# Altium schematic symbol library kmilo17pet-LT_OpAmp_LT1000.SchLib: 2280 symbols (part 46 of 79)
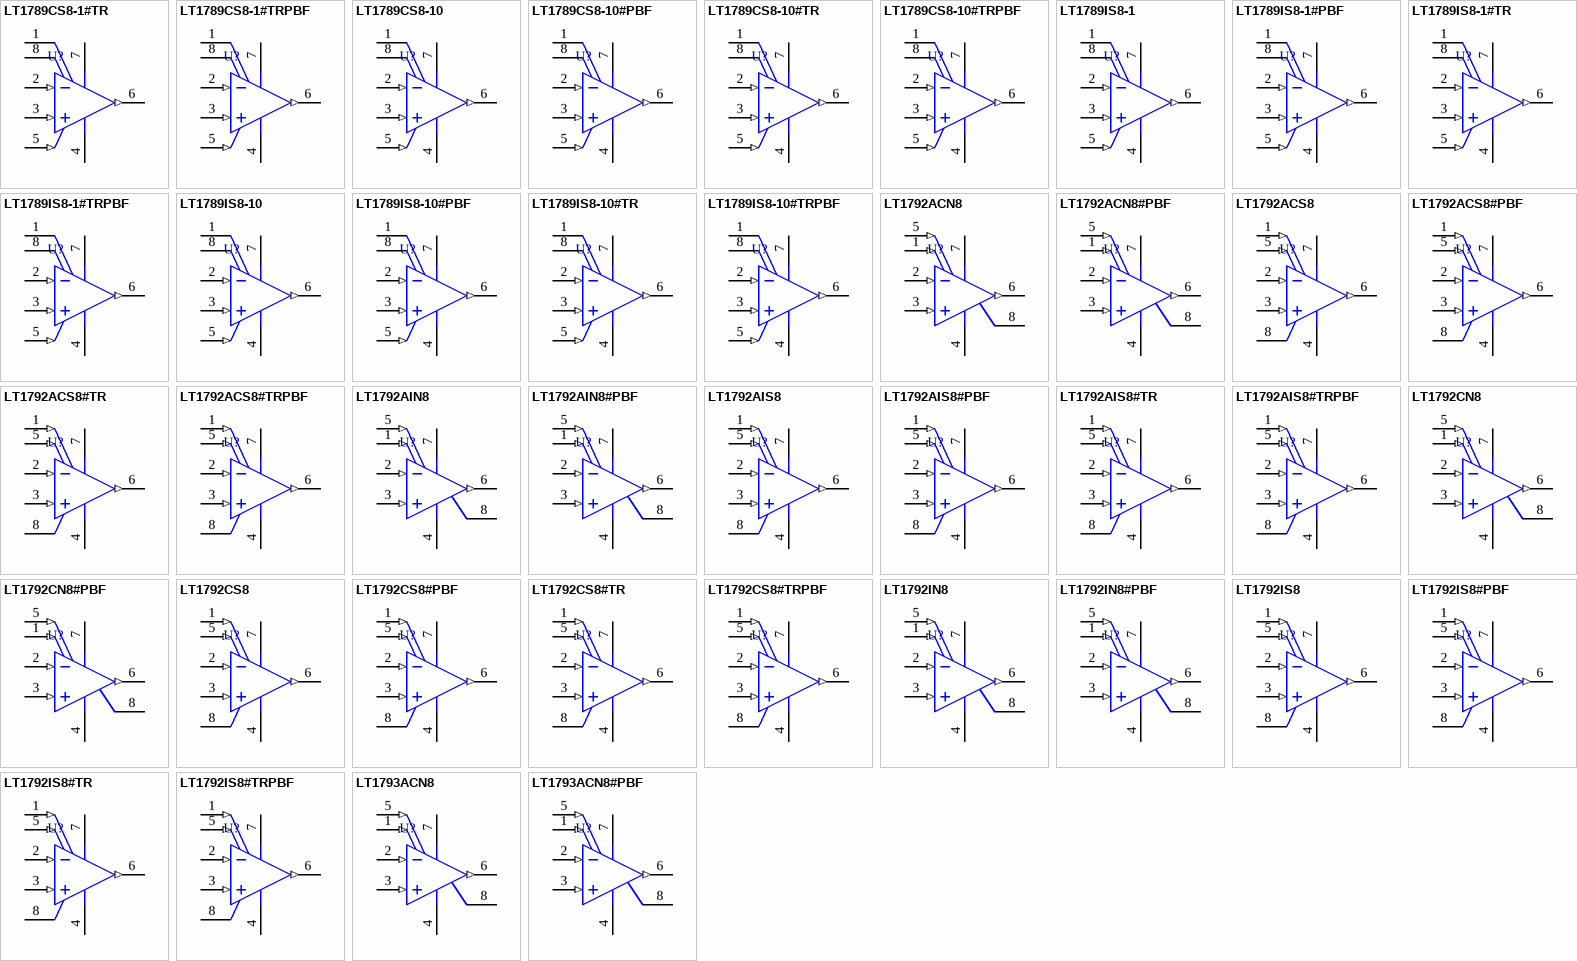
[diagram p150: symbols LT1789CS8-1#TR to LT1793ACN8#PBF]

## LT1789IS8-10
designator U?
Single Channel, Micropower, Single Supply Rail-to-Rail Output Instrumentation Amplifiers, 0.06 MHz Typical GBW, 0.026 V/us Typical SR, 2.2 to 36 V, 8-Pin SOIC (S8-8), Industrial; Linear Technology Part Number: LT1789-10; Manufacturer: Linear Technology; PartNumber: LT1789IS8-10; Channels (#): 1; GBW (MHz) Typical: 0.06; Is (mA) Typical: 0.067; SR (V/us) Typical: 0.026; Vos (mV) Guaranteed: 3; Vos (mV) Typical: 0.65; Vs Max (V): 36; Vs Min (V): 2.2; DatasheetVersion: Rev. C; PackageVersion: Rev G; PackageReference: LT-S8-8; PackageDescription: 8-Pin Plastic Small Outline, Body 4.9 x 3.9 mm, Pitch 1.27 mm; Supplier 1: Digi-Key; Supplier Part Number 1: LT1789IS8-10-ND; Type: IA; Mounting Technology: Surface Mount; ComponentLink1Description: Manufacturer URL; ComponentLink1URL: http://www.linear.com/; ComponentLink2Description: Datasheet; ComponentLink2URL: http://cds.linear.com/docs/en/datasheet/1789fc.pdf; ComponentLink3Description: Package Specification; ComponentLink3URL: http://cds.linear.com/docs/en/packaging/05081610_G_SO8.pdf
footprint LT-S8-8_N (SOIC, 8-Leads, Body 4.9x3.9mm, Pitch 1.27mm, IPC Medium Density)
footprint LT-S8-8_L (SOIC, 8-Leads, Body 4.9x3.9mm, Pitch 1.27mm, IPC High Density)
footprint LT-S8-8_M (SOIC, 8-Leads, Body 4.9x3.9mm, Pitch 1.27mm, IPC Low Density)
pins: 1 RG, 2 -IN (in), 3 +IN (in), 4 -VS (power), 5 REF (in), 6 OUT (out), 7 +VS (power), 8 RG

## LT1789IS8-10#PBF
designator U?
Single Channel, Micropower, Single Supply Rail-to-Rail Output Instrumentation Amplifiers, 0.06 MHz Typical GBW, 0.026 V/us Typical SR, 2.2 to 36 V, 8-Pin SOIC (S8-8), Industrial, Pb-Free; Linear Technology Part Number: LT1789-10; Manufacturer: Linear Technology; PartNumber: LT1789IS8-10#PBF; Channels (#): 1; GBW (MHz) Typical: 0.06; Is (mA) Typical: 0.067; SR (V/us) Typical: 0.026; Vos (mV) Guaranteed: 3; Vos (mV) Typical: 0.65; Vs Max (V): 36; Vs Min (V): 2.2; DatasheetVersion: Rev. C; PackageVersion: Rev G; PackageReference: LT-S8-8; PackageDescription: 8-Pin Plastic Small Outline, Body 4.9 x 3.9 mm, Pitch 1.27 mm; Supplier 1: Digi-Key; Supplier Part Number 1: LT1789IS8-10#PBF-ND; Supplier 2: Newark; Supplier Part Number 2: 57M6483; RoHS: Pb-Free; Type: IA; Mounting Technology: Surface Mount; ComponentLink1Description: Manufacturer URL; ComponentLink1URL: http://www.linear.com/; ComponentLink2Description: Datasheet; ComponentLink2URL: http://cds.linear.com/docs/en/datasheet/1789fc.pdf; ComponentLink3Description: Package Specification; ComponentLink3URL: http://cds.linear.com/docs/en/packaging/05081610_G_SO8.pdf
footprint LT-S8-8_N (SOIC, 8-Leads, Body 4.9x3.9mm, Pitch 1.27mm, IPC Medium Density)
footprint LT-S8-8_L (SOIC, 8-Leads, Body 4.9x3.9mm, Pitch 1.27mm, IPC High Density)
footprint LT-S8-8_M (SOIC, 8-Leads, Body 4.9x3.9mm, Pitch 1.27mm, IPC Low Density)
pins: 1 RG, 2 -IN (in), 3 +IN (in), 4 -VS (power), 5 REF (in), 6 OUT (out), 7 +VS (power), 8 RG

## LT1789IS8-10#TR
designator U?
Single Channel, Micropower, Single Supply Rail-to-Rail Output Instrumentation Amplifiers, 0.06 MHz Typical GBW, 0.026 V/us Typical SR, 2.2 to 36 V, 8-Pin SOIC (S8-8), Industrial, Reel; Linear Technology Part Number: LT1789-10; Manufacturer: Linear Technology; PartNumber: LT1789IS8-10#TR; Channels (#): 1; GBW (MHz) Typical: 0.06; Is (mA) Typical: 0.067; SR (V/us) Typical: 0.026; Vos (mV) Guaranteed: 3; Vos (mV) Typical: 0.65; Vs Max (V): 36; Vs Min (V): 2.2; DatasheetVersion: Rev. C; PackageVersion: Rev G; PackageReference: LT-S8-8; PackageDescription: 8-Pin Plastic Small Outline, Body 4.9 x 3.9 mm, Pitch 1.27 mm; Supplier 1: Digi-Key; Supplier Part Number 1: LT1789IS8-10#TR-ND; Packing: Reel; Type: IA; Mounting Technology: Surface Mount; ComponentLink1Description: Manufacturer URL; ComponentLink1URL: http://www.linear.com/; ComponentLink2Description: Datasheet; ComponentLink2URL: http://cds.linear.com/docs/en/datasheet/1789fc.pdf; ComponentLink3Description: Package Specification; ComponentLink3URL: http://cds.linear.com/docs/en/packaging/05081610_G_SO8.pdf
footprint LT-S8-8_N (SOIC, 8-Leads, Body 4.9x3.9mm, Pitch 1.27mm, IPC Medium Density)
footprint LT-S8-8_L (SOIC, 8-Leads, Body 4.9x3.9mm, Pitch 1.27mm, IPC High Density)
footprint LT-S8-8_M (SOIC, 8-Leads, Body 4.9x3.9mm, Pitch 1.27mm, IPC Low Density)
pins: 1 RG, 2 -IN (in), 3 +IN (in), 4 -VS (power), 5 REF (in), 6 OUT (out), 7 +VS (power), 8 RG

## LT1789IS8-10#TRPBF
designator U?
Single Channel, Micropower, Single Supply Rail-to-Rail Output Instrumentation Amplifiers, 0.06 MHz Typical GBW, 0.026 V/us Typical SR, 2.2 to 36 V, 8-Pin SOIC (S8-8), Industrial, Pb-Free, Reel; Linear Technology Part Number: LT1789-10; Manufacturer: Linear Technology; PartNumber: LT1789IS8-10#TRPBF; Channels (#): 1; GBW (MHz) Typical: 0.06; Is (mA) Typical: 0.067; SR (V/us) Typical: 0.026; Vos (mV) Guaranteed: 3; Vos (mV) Typical: 0.65; Vs Max (V): 36; Vs Min (V): 2.2; DatasheetVersion: Rev. C; PackageVersion: Rev G; PackageReference: LT-S8-8; PackageDescription: 8-Pin Plastic Small Outline, Body 4.9 x 3.9 mm, Pitch 1.27 mm; Supplier 1: Digi-Key; Supplier Part Number 1: LT1789IS8-10#TRPBF-ND; Packing: Reel; RoHS: Pb-Free; Type: IA; Mounting Technology: Surface Mount; ComponentLink1Description: Manufacturer URL; ComponentLink1URL: http://www.linear.com/; ComponentLink2Description: Datasheet; ComponentLink2URL: http://cds.linear.com/docs/en/datasheet/1789fc.pdf; ComponentLink3Description: Package Specification; ComponentLink3URL: http://cds.linear.com/docs/en/packaging/05081610_G_SO8.pdf
footprint LT-S8-8_N (SOIC, 8-Leads, Body 4.9x3.9mm, Pitch 1.27mm, IPC Medium Density)
footprint LT-S8-8_L (SOIC, 8-Leads, Body 4.9x3.9mm, Pitch 1.27mm, IPC High Density)
footprint LT-S8-8_M (SOIC, 8-Leads, Body 4.9x3.9mm, Pitch 1.27mm, IPC Low Density)
pins: 1 RG, 2 -IN (in), 3 +IN (in), 4 -VS (power), 5 REF (in), 6 OUT (out), 7 +VS (power), 8 RG

## LT1792ACN8
designator U?
Single Channel, Low Distortion, Low Noise, Precision Operational Amplifier, 5.6 MHz Typical GBW, 3.4 V/us Typical SR, 10 to 40 V, 8-Pin DIP (N8-8), Commercial; Linear Technology Part Number: LT1792; Manufacturer: Linear Technology; PartNumber: LT1792ACN8; Channels (#): 1; GBW (MHz) Typical: 5.6; Is (mA) Typical: 4.2; SR (V/us) Typical: 3.4; Vos (mV) Guaranteed: 0.6; Vos (mV) Typical: 0.2; Vs Max (V): 40; Vs Min (V): 10; PackageVersion: Rev I; PackageReference: LT-N8-8; PackageDescription: 8-Lead PDIP, Body 10.16 x 6.48 mm, Pitch 2.54 mm; Supplier 1: Digi-Key; Supplier Part Number 1: LT1792ACN8-ND; Type: JFET; Mounting Technology: Through Hole; ComponentLink1Description: Manufacturer URL; ComponentLink1URL: http://www.linear.com/; ComponentLink2Description: Datasheet; ComponentLink2URL: http://cds.linear.com/docs/en/datasheet/1792f.pdf; ComponentLink3Description: Package Specification; ComponentLink3URL: http://cds.linear.com/docs/en/packaging/05081510_I_N8.pdf
footprint LT-N8-8 (DIP, 8-Leads, Body 10.16x6.48mm, Pitch 2.54mm)
pins: 1 VOS ADJ (in), 2 -IN A (in), 3 +IN A (in), 4 V- (power), 5 VOS ADJ (in), 6 OUT (out), 7 V+ (power), 8 NC

## LT1792ACN8#PBF
designator U?
Single Channel, Low Distortion, Low Noise, Precision Operational Amplifier, 5.6 MHz Typical GBW, 3.4 V/us Typical SR, 10 to 40 V, 8-Pin DIP (N8-8), Commercial, Pb-Free; Linear Technology Part Number: LT1792; Manufacturer: Linear Technology; PartNumber: LT1792ACN8#PBF; Channels (#): 1; GBW (MHz) Typical: 5.6; Is (mA) Typical: 4.2; SR (V/us) Typical: 3.4; Vos (mV) Guaranteed: 0.6; Vos (mV) Typical: 0.2; Vs Max (V): 40; Vs Min (V): 10; PackageVersion: Rev I; PackageReference: LT-N8-8; PackageDescription: 8-Lead PDIP, Body 10.16 x 6.48 mm, Pitch 2.54 mm; Supplier 1: Digi-Key; Supplier Part Number 1: LT1792ACN8#PBF-ND; RoHS: Pb-Free; Type: JFET; Mounting Technology: Surface Mount; ComponentLink1Description: Manufacturer URL; ComponentLink1URL: http://www.linear.com/; ComponentLink2Description: Datasheet; ComponentLink2URL: http://cds.linear.com/docs/en/datasheet/1792f.pdf; ComponentLink3Description: Package Specification; ComponentLink3URL: http://cds.linear.com/docs/en/packaging/05081510_I_N8.pdf
footprint LT-N8-8 (DIP, 8-Leads, Body 10.16x6.48mm, Pitch 2.54mm)
pins: 1 VOS ADJ (in), 2 -IN A (in), 3 +IN A (in), 4 V- (power), 5 VOS ADJ (in), 6 OUT (out), 7 V+ (power), 8 NC

## LT1792ACS8
designator U?
Single Channel, Low Distortion, Low Noise, Precision Operational Amplifier, 5.6 MHz Typical GBW, 3.4 V/us Typical SR, 10 to 40 V, 8-Pin SOIC (S8-8), Commercial; Linear Technology Part Number: LT1792; Manufacturer: Linear Technology; PartNumber: LT1792ACS8; Channels (#): 1; GBW (MHz) Typical: 5.6; Is (mA) Typical: 4.2; SR (V/us) Typical: 3.4; Vos (mV) Guaranteed: 0.6; Vos (mV) Typical: 0.2; Vs Max (V): 40; Vs Min (V): 10; PackageVersion: Rev G; PackageReference: LT-S8-8; PackageDescription: 8-Pin Plastic Small Outline, Body 4.9 x 3.9 mm, Pitch 1.27 mm; Supplier 1: Digi-Key; Supplier Part Number 1: LT1792ACS8-ND; Type: JFET; Mounting Technology: Surface Mount; ComponentLink1Description: Manufacturer URL; ComponentLink1URL: http://www.linear.com/; ComponentLink2Description: Datasheet; ComponentLink2URL: http://cds.linear.com/docs/en/datasheet/1792f.pdf; ComponentLink3Description: Package Specification; ComponentLink3URL: http://cds.linear.com/docs/en/packaging/05081610_G_SO8.pdf
footprint LT-S8-8_N (SOIC, 8-Leads, Body 4.9x3.9mm, Pitch 1.27mm, IPC Medium Density)
footprint LT-S8-8_L (SOIC, 8-Leads, Body 4.9x3.9mm, Pitch 1.27mm, IPC High Density)
footprint LT-S8-8_M (SOIC, 8-Leads, Body 4.9x3.9mm, Pitch 1.27mm, IPC Low Density)
pins: 1 VOS ADJ (in), 2 -IN A (in), 3 +IN A (in), 4 V- (power), 5 VOS ADJ (in), 6 OUT (out), 7 V+ (power), 8 NC

## LT1792ACS8#PBF
designator U?
Single Channel, Low Distortion, Low Noise, Precision Operational Amplifier, 5.6 MHz Typical GBW, 3.4 V/us Typical SR, 10 to 40 V, 8-Pin SOIC (S8-8), Commercial, Pb-Free; Linear Technology Part Number: LT1792; Manufacturer: Linear Technology; PartNumber: LT1792ACS8#PBF; Channels (#): 1; GBW (MHz) Typical: 5.6; Is (mA) Typical: 4.2; SR (V/us) Typical: 3.4; Vos (mV) Guaranteed: 0.6; Vos (mV) Typical: 0.2; Vs Max (V): 40; Vs Min (V): 10; PackageVersion: Rev G; PackageReference: LT-S8-8; PackageDescription: 8-Pin Plastic Small Outline, Body 4.9 x 3.9 mm, Pitch 1.27 mm; Supplier 1: Digi-Key; Supplier Part Number 1: LT1792ACS8#PBF-ND; RoHS: Pb-Free; Type: JFET; Mounting Technology: Surface Mount; ComponentLink1Description: Manufacturer URL; ComponentLink1URL: http://www.linear.com/; ComponentLink2Description: Datasheet; ComponentLink2URL: http://cds.linear.com/docs/en/datasheet/1792f.pdf; ComponentLink3Description: Package Specification; ComponentLink3URL: http://cds.linear.com/docs/en/packaging/05081610_G_SO8.pdf
footprint LT-S8-8_N (SOIC, 8-Leads, Body 4.9x3.9mm, Pitch 1.27mm, IPC Medium Density)
footprint LT-S8-8_L (SOIC, 8-Leads, Body 4.9x3.9mm, Pitch 1.27mm, IPC High Density)
footprint LT-S8-8_M (SOIC, 8-Leads, Body 4.9x3.9mm, Pitch 1.27mm, IPC Low Density)
pins: 1 VOS ADJ (in), 2 -IN A (in), 3 +IN A (in), 4 V- (power), 5 VOS ADJ (in), 6 OUT (out), 7 V+ (power), 8 NC

## LT1792ACS8#TR
designator U?
Single Channel, Low Distortion, Low Noise, Precision Operational Amplifier, 5.6 MHz Typical GBW, 3.4 V/us Typical SR, 10 to 40 V, 8-Pin SOIC (S8-8), Commercial, Reel; Linear Technology Part Number: LT1792; Manufacturer: Linear Technology; PartNumber: LT1792ACS8#TR; Channels (#): 1; GBW (MHz) Typical: 5.6; Is (mA) Typical: 4.2; SR (V/us) Typical: 3.4; Vos (mV) Guaranteed: 0.6; Vos (mV) Typical: 0.2; Vs Max (V): 40; Vs Min (V): 10; PackageVersion: Rev G; PackageReference: LT-S8-8; PackageDescription: 8-Pin Plastic Small Outline, Body 4.9 x 3.9 mm, Pitch 1.27 mm; Supplier 1: Digi-Key; Supplier Part Number 1: LT1792ACS8#TR-ND; Packing: Reel; Type: JFET; Mounting Technology: Surface Mount; ComponentLink1Description: Manufacturer URL; ComponentLink1URL: http://www.linear.com/; ComponentLink2Description: Datasheet; ComponentLink2URL: http://cds.linear.com/docs/en/datasheet/1792f.pdf; ComponentLink3Description: Package Specification; ComponentLink3URL: http://cds.linear.com/docs/en/packaging/05081610_G_SO8.pdf
footprint LT-S8-8_N (SOIC, 8-Leads, Body 4.9x3.9mm, Pitch 1.27mm, IPC Medium Density)
footprint LT-S8-8_L (SOIC, 8-Leads, Body 4.9x3.9mm, Pitch 1.27mm, IPC High Density)
footprint LT-S8-8_M (SOIC, 8-Leads, Body 4.9x3.9mm, Pitch 1.27mm, IPC Low Density)
pins: 1 VOS ADJ (in), 2 -IN A (in), 3 +IN A (in), 4 V- (power), 5 VOS ADJ (in), 6 OUT (out), 7 V+ (power), 8 NC

## LT1792ACS8#TRPBF
designator U?
Single Channel, Low Distortion, Low Noise, Precision Operational Amplifier, 5.6 MHz Typical GBW, 3.4 V/us Typical SR, 10 to 40 V, 8-Pin SOIC (S8-8), Commercial, Pb-Free, Reel; Linear Technology Part Number: LT1792; Manufacturer: Linear Technology; PartNumber: LT1792ACS8#TRPBF; Channels (#): 1; GBW (MHz) Typical: 5.6; Is (mA) Typical: 4.2; SR (V/us) Typical: 3.4; Vos (mV) Guaranteed: 0.6; Vos (mV) Typical: 0.2; Vs Max (V): 40; Vs Min (V): 10; PackageVersion: Rev G; PackageReference: LT-S8-8; PackageDescription: 8-Pin Plastic Small Outline, Body 4.9 x 3.9 mm, Pitch 1.27 mm; Supplier 1: Digi-Key; Supplier Part Number 1: LT1792ACS8#TRPBF-ND; Packing: Reel; RoHS: Pb-Free; Type: JFET; Mounting Technology: Surface Mount; ComponentLink1Description: Manufacturer URL; ComponentLink1URL: http://www.linear.com/; ComponentLink2Description: Datasheet; ComponentLink2URL: http://cds.linear.com/docs/en/datasheet/1792f.pdf; ComponentLink3Description: Package Specification; ComponentLink3URL: http://cds.linear.com/docs/en/packaging/05081610_G_SO8.pdf
footprint LT-S8-8_N (SOIC, 8-Leads, Body 4.9x3.9mm, Pitch 1.27mm, IPC Medium Density)
footprint LT-S8-8_L (SOIC, 8-Leads, Body 4.9x3.9mm, Pitch 1.27mm, IPC High Density)
footprint LT-S8-8_M (SOIC, 8-Leads, Body 4.9x3.9mm, Pitch 1.27mm, IPC Low Density)
pins: 1 VOS ADJ (in), 2 -IN A (in), 3 +IN A (in), 4 V- (power), 5 VOS ADJ (in), 6 OUT (out), 7 V+ (power), 8 NC

## LT1792AIN8
designator U?
Single Channel, Low Distortion, Low Noise, Precision Operational Amplifier, 5.6 MHz Typical GBW, 3.4 V/us Typical SR, 10 to 40 V, 8-Pin DIP (N8-8), Industrial; Linear Technology Part Number: LT1792; Manufacturer: Linear Technology; PartNumber: LT1792AIN8; Channels (#): 1; GBW (MHz) Typical: 5.6; Is (mA) Typical: 4.2; SR (V/us) Typical: 3.4; Vos (mV) Guaranteed: 0.6; Vos (mV) Typical: 0.2; Vs Max (V): 40; Vs Min (V): 10; PackageVersion: Rev I; PackageReference: LT-N8-8; PackageDescription: 8-Lead PDIP, Body 10.16 x 6.48 mm, Pitch 2.54 mm; Supplier 1: Digi-Key; Supplier Part Number 1: LT1792AIN8-ND; Type: JFET; Mounting Technology: Through Hole; ComponentLink1Description: Manufacturer URL; ComponentLink1URL: http://www.linear.com/; ComponentLink2Description: Datasheet; ComponentLink2URL: http://cds.linear.com/docs/en/datasheet/1792f.pdf; ComponentLink3Description: Package Specification; ComponentLink3URL: http://cds.linear.com/docs/en/packaging/05081510_I_N8.pdf
footprint LT-N8-8 (DIP, 8-Leads, Body 10.16x6.48mm, Pitch 2.54mm)
pins: 1 VOS ADJ (in), 2 -IN A (in), 3 +IN A (in), 4 V- (power), 5 VOS ADJ (in), 6 OUT (out), 7 V+ (power), 8 NC

## LT1792AIN8#PBF
designator U?
Single Channel, Low Distortion, Low Noise, Precision Operational Amplifier, 5.6 MHz Typical GBW, 3.4 V/us Typical SR, 10 to 40 V, 8-Pin DIP (N8-8), Industrial, Pb-Free; Linear Technology Part Number: LT1792; Manufacturer: Linear Technology; PartNumber: LT1792AIN8#PBF; Channels (#): 1; GBW (MHz) Typical: 5.6; Is (mA) Typical: 4.2; SR (V/us) Typical: 3.4; Vos (mV) Guaranteed: 0.6; Vos (mV) Typical: 0.2; Vs Max (V): 40; Vs Min (V): 10; PackageVersion: Rev I; PackageReference: LT-N8-8; PackageDescription: 8-Lead PDIP, Body 10.16 x 6.48 mm, Pitch 2.54 mm; Supplier 1: Digi-Key; Supplier Part Number 1: LT1792AIN8#PBF-ND; RoHS: Pb-Free; Type: JFET; Mounting Technology: Surface Mount; ComponentLink1Description: Manufacturer URL; ComponentLink1URL: http://www.linear.com/; ComponentLink2Description: Datasheet; ComponentLink2URL: http://cds.linear.com/docs/en/datasheet/1792f.pdf; ComponentLink3Description: Package Specification; ComponentLink3URL: http://cds.linear.com/docs/en/packaging/05081510_I_N8.pdf
footprint LT-N8-8 (DIP, 8-Leads, Body 10.16x6.48mm, Pitch 2.54mm)
pins: 1 VOS ADJ (in), 2 -IN A (in), 3 +IN A (in), 4 V- (power), 5 VOS ADJ (in), 6 OUT (out), 7 V+ (power), 8 NC

## LT1792AIS8
designator U?
Single Channel, Low Distortion, Low Noise, Precision Operational Amplifier, 5.6 MHz Typical GBW, 3.4 V/us Typical SR, 10 to 40 V, 8-Pin SOIC (S8-8), Industrial; Linear Technology Part Number: LT1792; Manufacturer: Linear Technology; PartNumber: LT1792AIS8; Channels (#): 1; GBW (MHz) Typical: 5.6; Is (mA) Typical: 4.2; SR (V/us) Typical: 3.4; Vos (mV) Guaranteed: 0.6; Vos (mV) Typical: 0.2; Vs Max (V): 40; Vs Min (V): 10; PackageVersion: Rev G; PackageReference: LT-S8-8; PackageDescription: 8-Pin Plastic Small Outline, Body 4.9 x 3.9 mm, Pitch 1.27 mm; Supplier 1: Digi-Key; Supplier Part Number 1: LT1792AIS8-ND; Type: JFET; Mounting Technology: Surface Mount; ComponentLink1Description: Manufacturer URL; ComponentLink1URL: http://www.linear.com/; ComponentLink2Description: Datasheet; ComponentLink2URL: http://cds.linear.com/docs/en/datasheet/1792f.pdf; ComponentLink3Description: Package Specification; ComponentLink3URL: http://cds.linear.com/docs/en/packaging/05081610_G_SO8.pdf
footprint LT-S8-8_N (SOIC, 8-Leads, Body 4.9x3.9mm, Pitch 1.27mm, IPC Medium Density)
footprint LT-S8-8_L (SOIC, 8-Leads, Body 4.9x3.9mm, Pitch 1.27mm, IPC High Density)
footprint LT-S8-8_M (SOIC, 8-Leads, Body 4.9x3.9mm, Pitch 1.27mm, IPC Low Density)
pins: 1 VOS ADJ (in), 2 -IN A (in), 3 +IN A (in), 4 V- (power), 5 VOS ADJ (in), 6 OUT (out), 7 V+ (power), 8 NC

## LT1792AIS8#PBF
designator U?
Single Channel, Low Distortion, Low Noise, Precision Operational Amplifier, 5.6 MHz Typical GBW, 3.4 V/us Typical SR, 10 to 40 V, 8-Pin SOIC (S8-8), Industrial, Pb-Free; Linear Technology Part Number: LT1792; Manufacturer: Linear Technology; PartNumber: LT1792AIS8#PBF; Channels (#): 1; GBW (MHz) Typical: 5.6; Is (mA) Typical: 4.2; SR (V/us) Typical: 3.4; Vos (mV) Guaranteed: 0.6; Vos (mV) Typical: 0.2; Vs Max (V): 40; Vs Min (V): 10; PackageVersion: Rev G; PackageReference: LT-S8-8; PackageDescription: 8-Pin Plastic Small Outline, Body 4.9 x 3.9 mm, Pitch 1.27 mm; Supplier 1: Digi-Key; Supplier Part Number 1: LT1792AIS8#PBF-ND; RoHS: Pb-Free; Type: JFET; Mounting Technology: Surface Mount; ComponentLink1Description: Manufacturer URL; ComponentLink1URL: http://www.linear.com/; ComponentLink2Description: Datasheet; ComponentLink2URL: http://cds.linear.com/docs/en/datasheet/1792f.pdf; ComponentLink3Description: Package Specification; ComponentLink3URL: http://cds.linear.com/docs/en/packaging/05081610_G_SO8.pdf
footprint LT-S8-8_N (SOIC, 8-Leads, Body 4.9x3.9mm, Pitch 1.27mm, IPC Medium Density)
footprint LT-S8-8_L (SOIC, 8-Leads, Body 4.9x3.9mm, Pitch 1.27mm, IPC High Density)
footprint LT-S8-8_M (SOIC, 8-Leads, Body 4.9x3.9mm, Pitch 1.27mm, IPC Low Density)
pins: 1 VOS ADJ (in), 2 -IN A (in), 3 +IN A (in), 4 V- (power), 5 VOS ADJ (in), 6 OUT (out), 7 V+ (power), 8 NC

## LT1792AIS8#TR
designator U?
Single Channel, Low Distortion, Low Noise, Precision Operational Amplifier, 5.6 MHz Typical GBW, 3.4 V/us Typical SR, 10 to 40 V, 8-Pin SOIC (S8-8), Industrial, Reel; Linear Technology Part Number: LT1792; Manufacturer: Linear Technology; PartNumber: LT1792AIS8#TR; Channels (#): 1; GBW (MHz) Typical: 5.6; Is (mA) Typical: 4.2; SR (V/us) Typical: 3.4; Vos (mV) Guaranteed: 0.6; Vos (mV) Typical: 0.2; Vs Max (V): 40; Vs Min (V): 10; PackageVersion: Rev G; PackageReference: LT-S8-8; PackageDescription: 8-Pin Plastic Small Outline, Body 4.9 x 3.9 mm, Pitch 1.27 mm; Supplier 1: Digi-Key; Supplier Part Number 1: LT1792AIS8#TR-ND; Packing: Reel; Type: JFET; Mounting Technology: Surface Mount; ComponentLink1Description: Manufacturer URL; ComponentLink1URL: http://www.linear.com/; ComponentLink2Description: Datasheet; ComponentLink2URL: http://cds.linear.com/docs/en/datasheet/1792f.pdf; ComponentLink3Description: Package Specification; ComponentLink3URL: http://cds.linear.com/docs/en/packaging/05081610_G_SO8.pdf
footprint LT-S8-8_N (SOIC, 8-Leads, Body 4.9x3.9mm, Pitch 1.27mm, IPC Medium Density)
footprint LT-S8-8_L (SOIC, 8-Leads, Body 4.9x3.9mm, Pitch 1.27mm, IPC High Density)
footprint LT-S8-8_M (SOIC, 8-Leads, Body 4.9x3.9mm, Pitch 1.27mm, IPC Low Density)
pins: 1 VOS ADJ (in), 2 -IN A (in), 3 +IN A (in), 4 V- (power), 5 VOS ADJ (in), 6 OUT (out), 7 V+ (power), 8 NC

## LT1792AIS8#TRPBF
designator U?
Single Channel, Low Distortion, Low Noise, Precision Operational Amplifier, 5.6 MHz Typical GBW, 3.4 V/us Typical SR, 10 to 40 V, 8-Pin SOIC (S8-8), Industrial, Pb-Free, Reel; Linear Technology Part Number: LT1792; Manufacturer: Linear Technology; PartNumber: LT1792AIS8#TRPBF; Channels (#): 1; GBW (MHz) Typical: 5.6; Is (mA) Typical: 4.2; SR (V/us) Typical: 3.4; Vos (mV) Guaranteed: 0.6; Vos (mV) Typical: 0.2; Vs Max (V): 40; Vs Min (V): 10; PackageVersion: Rev G; PackageReference: LT-S8-8; PackageDescription: 8-Pin Plastic Small Outline, Body 4.9 x 3.9 mm, Pitch 1.27 mm; Supplier 1: Digi-Key; Supplier Part Number 1: LT1792AIS8#TRPBF-ND; Packing: Reel; RoHS: Pb-Free; Type: JFET; Mounting Technology: Surface Mount; ComponentLink1Description: Manufacturer URL; ComponentLink1URL: http://www.linear.com/; ComponentLink2Description: Datasheet; ComponentLink2URL: http://cds.linear.com/docs/en/datasheet/1792f.pdf; ComponentLink3Description: Package Specification; ComponentLink3URL: http://cds.linear.com/docs/en/packaging/05081610_G_SO8.pdf
footprint LT-S8-8_N (SOIC, 8-Leads, Body 4.9x3.9mm, Pitch 1.27mm, IPC Medium Density)
footprint LT-S8-8_L (SOIC, 8-Leads, Body 4.9x3.9mm, Pitch 1.27mm, IPC High Density)
footprint LT-S8-8_M (SOIC, 8-Leads, Body 4.9x3.9mm, Pitch 1.27mm, IPC Low Density)
pins: 1 VOS ADJ (in), 2 -IN A (in), 3 +IN A (in), 4 V- (power), 5 VOS ADJ (in), 6 OUT (out), 7 V+ (power), 8 NC

## LT1792CN8
designator U?
Single Channel, Low Distortion, Low Noise, Precision Operational Amplifier, 5.6 MHz Typical GBW, 3.4 V/us Typical SR, 10 to 40 V, 8-Pin DIP (N8-8), Commercial; Linear Technology Part Number: LT1792; Manufacturer: Linear Technology; PartNumber: LT1792CN8; Channels (#): 1; GBW (MHz) Typical: 5.6; Is (mA) Typical: 4.2; SR (V/us) Typical: 3.4; Vos (mV) Guaranteed: 0.6; Vos (mV) Typical: 0.2; Vs Max (V): 40; Vs Min (V): 10; PackageVersion: Rev I; PackageReference: LT-N8-8; PackageDescription: 8-Lead PDIP, Body 10.16 x 6.48 mm, Pitch 2.54 mm; Supplier 1: Digi-Key; Supplier Part Number 1: LT1792CN8-ND; Type: JFET; Mounting Technology: Surface Mount; ComponentLink1Description: Manufacturer URL; ComponentLink1URL: http://www.linear.com/; ComponentLink2Description: Datasheet; ComponentLink2URL: http://cds.linear.com/docs/en/datasheet/1792f.pdf; ComponentLink3Description: Package Specification; ComponentLink3URL: http://cds.linear.com/docs/en/packaging/05081510_I_N8.pdf
footprint LT-N8-8 (DIP, 8-Leads, Body 10.16x6.48mm, Pitch 2.54mm)
pins: 1 VOS ADJ (in), 2 -IN A (in), 3 +IN A (in), 4 V- (power), 5 VOS ADJ (in), 6 OUT (out), 7 V+ (power), 8 NC

## LT1792CN8#PBF
designator U?
Single Channel, Low Distortion, Low Noise, Precision Operational Amplifier, 5.6 MHz Typical GBW, 3.4 V/us Typical SR, 10 to 40 V, 8-Pin DIP (N8-8), Commercial, Pb-Free; Linear Technology Part Number: LT1792; Manufacturer: Linear Technology; PartNumber: LT1792CN8#PBF; Channels (#): 1; GBW (MHz) Typical: 5.6; Is (mA) Typical: 4.2; SR (V/us) Typical: 3.4; Vos (mV) Guaranteed: 0.6; Vos (mV) Typical: 0.2; Vs Max (V): 40; Vs Min (V): 10; PackageVersion: Rev I; PackageReference: LT-N8-8; PackageDescription: 8-Lead PDIP, Body 10.16 x 6.48 mm, Pitch 2.54 mm; Supplier 1: Digi-Key; Supplier Part Number 1: LT1792CN8#PBF-ND; RoHS: Pb-Free; Type: JFET; Mounting Technology: Surface Mount; ComponentLink1Description: Manufacturer URL; ComponentLink1URL: http://www.linear.com/; ComponentLink2Description: Datasheet; ComponentLink2URL: http://cds.linear.com/docs/en/datasheet/1792f.pdf; ComponentLink3Description: Package Specification; ComponentLink3URL: http://cds.linear.com/docs/en/packaging/05081510_I_N8.pdf
footprint LT-N8-8 (DIP, 8-Leads, Body 10.16x6.48mm, Pitch 2.54mm)
pins: 1 VOS ADJ (in), 2 -IN A (in), 3 +IN A (in), 4 V- (power), 5 VOS ADJ (in), 6 OUT (out), 7 V+ (power), 8 NC

## LT1792CS8
designator U?
Single Channel, Low Distortion, Low Noise, Precision Operational Amplifier, 5.6 MHz Typical GBW, 3.4 V/us Typical SR, 10 to 40 V, 8-Pin SOIC (S8-8), Commercial; Linear Technology Part Number: LT1792; Manufacturer: Linear Technology; PartNumber: LT1792CS8; Channels (#): 1; GBW (MHz) Typical: 5.6; Is (mA) Typical: 4.2; SR (V/us) Typical: 3.4; Vos (mV) Guaranteed: 0.6; Vos (mV) Typical: 0.2; Vs Max (V): 40; Vs Min (V): 10; PackageVersion: Rev G; PackageReference: LT-S8-8; PackageDescription: 8-Pin Plastic Small Outline, Body 4.9 x 3.9 mm, Pitch 1.27 mm; Supplier 1: Digi-Key; Supplier Part Number 1: LT1792CS8-ND; Type: JFET; Mounting Technology: Surface Mount; ComponentLink1Description: Manufacturer URL; ComponentLink1URL: http://www.linear.com/; ComponentLink2Description: Datasheet; ComponentLink2URL: http://cds.linear.com/docs/en/datasheet/1792f.pdf; ComponentLink3Description: Package Specification; ComponentLink3URL: http://cds.linear.com/docs/en/packaging/05081610_G_SO8.pdf
footprint LT-S8-8_N (SOIC, 8-Leads, Body 4.9x3.9mm, Pitch 1.27mm, IPC Medium Density)
footprint LT-S8-8_L (SOIC, 8-Leads, Body 4.9x3.9mm, Pitch 1.27mm, IPC High Density)
footprint LT-S8-8_M (SOIC, 8-Leads, Body 4.9x3.9mm, Pitch 1.27mm, IPC Low Density)
pins: 1 VOS ADJ (in), 2 -IN A (in), 3 +IN A (in), 4 V- (power), 5 VOS ADJ (in), 6 OUT (out), 7 V+ (power), 8 NC

## LT1792CS8#PBF
designator U?
Single Channel, Low Distortion, Low Noise, Precision Operational Amplifier, 5.6 MHz Typical GBW, 3.4 V/us Typical SR, 10 to 40 V, 8-Pin SOIC (S8-8), Commercial, Pb-Free; Linear Technology Part Number: LT1792; Manufacturer: Linear Technology; PartNumber: LT1792CS8#PBF; Channels (#): 1; GBW (MHz) Typical: 5.6; Is (mA) Typical: 4.2; SR (V/us) Typical: 3.4; Vos (mV) Guaranteed: 0.6; Vos (mV) Typical: 0.2; Vs Max (V): 40; Vs Min (V): 10; PackageVersion: Rev G; PackageReference: LT-S8-8; PackageDescription: 8-Pin Plastic Small Outline, Body 4.9 x 3.9 mm, Pitch 1.27 mm; Supplier 1: Digi-Key; Supplier Part Number 1: LT1792CS8#PBF-ND; Supplier 2: Farnell; Supplier Part Number 2: 1330698; Supplier 3: Newark; Supplier Part Number 3: 57M6637; RoHS: Pb-Free; Type: JFET; Mounting Technology: Surface Mount; ComponentLink1Description: Manufacturer URL; ComponentLink1URL: http://www.linear.com/; ComponentLink2Description: Datasheet; ComponentLink2URL: http://cds.linear.com/docs/en/datasheet/1792f.pdf; ComponentLink3Description: Package Specification; ComponentLink3URL: http://cds.linear.com/docs/en/packaging/05081610_G_SO8.pdf
footprint LT-S8-8_N (SOIC, 8-Leads, Body 4.9x3.9mm, Pitch 1.27mm, IPC Medium Density)
footprint LT-S8-8_L (SOIC, 8-Leads, Body 4.9x3.9mm, Pitch 1.27mm, IPC High Density)
footprint LT-S8-8_M (SOIC, 8-Leads, Body 4.9x3.9mm, Pitch 1.27mm, IPC Low Density)
pins: 1 VOS ADJ (in), 2 -IN A (in), 3 +IN A (in), 4 V- (power), 5 VOS ADJ (in), 6 OUT (out), 7 V+ (power), 8 NC

## LT1792CS8#TR
designator U?
Single Channel, Low Distortion, Low Noise, Precision Operational Amplifier, 5.6 MHz Typical GBW, 3.4 V/us Typical SR, 10 to 40 V, 8-Pin SOIC (S8-8), Commercial, Reel; Linear Technology Part Number: LT1792; Manufacturer: Linear Technology; PartNumber: LT1792CS8#TR; Channels (#): 1; GBW (MHz) Typical: 5.6; Is (mA) Typical: 4.2; SR (V/us) Typical: 3.4; Vos (mV) Guaranteed: 0.6; Vos (mV) Typical: 0.2; Vs Max (V): 40; Vs Min (V): 10; PackageVersion: Rev G; PackageReference: LT-S8-8; PackageDescription: 8-Pin Plastic Small Outline, Body 4.9 x 3.9 mm, Pitch 1.27 mm; Supplier 1: Digi-Key; Supplier Part Number 1: LT1792CS8#TR-ND; Packing: Reel; Type: JFET; Mounting Technology: Surface Mount; ComponentLink1Description: Manufacturer URL; ComponentLink1URL: http://www.linear.com/; ComponentLink2Description: Datasheet; ComponentLink2URL: http://cds.linear.com/docs/en/datasheet/1792f.pdf; ComponentLink3Description: Package Specification; ComponentLink3URL: http://cds.linear.com/docs/en/packaging/05081610_G_SO8.pdf
footprint LT-S8-8_N (SOIC, 8-Leads, Body 4.9x3.9mm, Pitch 1.27mm, IPC Medium Density)
footprint LT-S8-8_L (SOIC, 8-Leads, Body 4.9x3.9mm, Pitch 1.27mm, IPC High Density)
footprint LT-S8-8_M (SOIC, 8-Leads, Body 4.9x3.9mm, Pitch 1.27mm, IPC Low Density)
pins: 1 VOS ADJ (in), 2 -IN A (in), 3 +IN A (in), 4 V- (power), 5 VOS ADJ (in), 6 OUT (out), 7 V+ (power), 8 NC

## LT1792CS8#TRPBF
designator U?
Single Channel, Low Distortion, Low Noise, Precision Operational Amplifier, 5.6 MHz Typical GBW, 3.4 V/us Typical SR, 10 to 40 V, 8-Pin SOIC (S8-8), Commercial, Pb-Free, Reel; Linear Technology Part Number: LT1792; Manufacturer: Linear Technology; PartNumber: LT1792CS8#TRPBF; Channels (#): 1; GBW (MHz) Typical: 5.6; Is (mA) Typical: 4.2; SR (V/us) Typical: 3.4; Vos (mV) Guaranteed: 0.6; Vos (mV) Typical: 0.2; Vs Max (V): 40; Vs Min (V): 10; PackageVersion: Rev G; PackageReference: LT-S8-8; PackageDescription: 8-Pin Plastic Small Outline, Body 4.9 x 3.9 mm, Pitch 1.27 mm; Supplier 1: Digi-Key; Supplier Part Number 1: LT1792CS8#TRPBF-ND; Packing: Reel; RoHS: Pb-Free; Type: JFET; Mounting Technology: Surface Mount; ComponentLink1Description: Manufacturer URL; ComponentLink1URL: http://www.linear.com/; ComponentLink2Description: Datasheet; ComponentLink2URL: http://cds.linear.com/docs/en/datasheet/1792f.pdf; ComponentLink3Description: Package Specification; ComponentLink3URL: http://cds.linear.com/docs/en/packaging/05081610_G_SO8.pdf
footprint LT-S8-8_N (SOIC, 8-Leads, Body 4.9x3.9mm, Pitch 1.27mm, IPC Medium Density)
footprint LT-S8-8_L (SOIC, 8-Leads, Body 4.9x3.9mm, Pitch 1.27mm, IPC High Density)
footprint LT-S8-8_M (SOIC, 8-Leads, Body 4.9x3.9mm, Pitch 1.27mm, IPC Low Density)
pins: 1 VOS ADJ (in), 2 -IN A (in), 3 +IN A (in), 4 V- (power), 5 VOS ADJ (in), 6 OUT (out), 7 V+ (power), 8 NC

## LT1792IN8
designator U?
Single Channel, Low Distortion, Low Noise, Precision Operational Amplifier, 5.6 MHz Typical GBW, 3.4 V/us Typical SR, 10 to 40 V, 8-Pin DIP (N8-8), Industrial; Linear Technology Part Number: LT1792; Manufacturer: Linear Technology; PartNumber: LT1792IN8; Channels (#): 1; GBW (MHz) Typical: 5.6; Is (mA) Typical: 4.2; SR (V/us) Typical: 3.4; Vos (mV) Guaranteed: 0.6; Vos (mV) Typical: 0.2; Vs Max (V): 40; Vs Min (V): 10; PackageVersion: Rev I; PackageReference: LT-N8-8; PackageDescription: 8-Lead PDIP, Body 10.16 x 6.48 mm, Pitch 2.54 mm; Supplier 1: Digi-Key; Supplier Part Number 1: LT1792IN8-ND; Type: JFET; Mounting Technology: Surface Mount; ComponentLink1Description: Manufacturer URL; ComponentLink1URL: http://www.linear.com/; ComponentLink2Description: Datasheet; ComponentLink2URL: http://cds.linear.com/docs/en/datasheet/1792f.pdf; ComponentLink3Description: Package Specification; ComponentLink3URL: http://cds.linear.com/docs/en/packaging/05081510_I_N8.pdf
footprint LT-N8-8 (DIP, 8-Leads, Body 10.16x6.48mm, Pitch 2.54mm)
pins: 1 VOS ADJ (in), 2 -IN A (in), 3 +IN A (in), 4 V- (power), 5 VOS ADJ (in), 6 OUT (out), 7 V+ (power), 8 NC

## LT1792IN8#PBF
designator U?
Single Channel, Low Distortion, Low Noise, Precision Operational Amplifier, 5.6 MHz Typical GBW, 3.4 V/us Typical SR, 10 to 40 V, 8-Pin DIP (N8-8), Industrial, Pb-Free; Linear Technology Part Number: LT1792; Manufacturer: Linear Technology; PartNumber: LT1792IN8#PBF; Channels (#): 1; GBW (MHz) Typical: 5.6; Is (mA) Typical: 4.2; SR (V/us) Typical: 3.4; Vos (mV) Guaranteed: 0.6; Vos (mV) Typical: 0.2; Vs Max (V): 40; Vs Min (V): 10; PackageVersion: Rev I; PackageReference: LT-N8-8; PackageDescription: 8-Lead PDIP, Body 10.16 x 6.48 mm, Pitch 2.54 mm; Supplier 1: Digi-Key; Supplier Part Number 1: LT1792IN8#PBF-ND; RoHS: Pb-Free; Type: JFET; Mounting Technology: Surface Mount; ComponentLink1Description: Manufacturer URL; ComponentLink1URL: http://www.linear.com/; ComponentLink2Description: Datasheet; ComponentLink2URL: http://cds.linear.com/docs/en/datasheet/1792f.pdf; ComponentLink3Description: Package Specification; ComponentLink3URL: http://cds.linear.com/docs/en/packaging/05081510_I_N8.pdf
footprint LT-N8-8 (DIP, 8-Leads, Body 10.16x6.48mm, Pitch 2.54mm)
pins: 1 VOS ADJ (in), 2 -IN A (in), 3 +IN A (in), 4 V- (power), 5 VOS ADJ (in), 6 OUT (out), 7 V+ (power), 8 NC

## LT1792IS8
designator U?
Single Channel, Low Distortion, Low Noise, Precision Operational Amplifier, 5.6 MHz Typical GBW, 3.4 V/us Typical SR, 10 to 40 V, 8-Pin SOIC (S8-8), Industrial; Linear Technology Part Number: LT1792; Manufacturer: Linear Technology; PartNumber: LT1792IS8; Channels (#): 1; GBW (MHz) Typical: 5.6; Is (mA) Typical: 4.2; SR (V/us) Typical: 3.4; Vos (mV) Guaranteed: 0.6; Vos (mV) Typical: 0.2; Vs Max (V): 40; Vs Min (V): 10; PackageVersion: Rev G; PackageReference: LT-S8-8; PackageDescription: 8-Pin Plastic Small Outline, Body 4.9 x 3.9 mm, Pitch 1.27 mm; Supplier 1: Digi-Key; Supplier Part Number 1: LT1792IS8-ND; Type: JFET; Mounting Technology: Surface Mount; ComponentLink1Description: Manufacturer URL; ComponentLink1URL: http://www.linear.com/; ComponentLink2Description: Datasheet; ComponentLink2URL: http://cds.linear.com/docs/en/datasheet/1792f.pdf; ComponentLink3Description: Package Specification; ComponentLink3URL: http://cds.linear.com/docs/en/packaging/05081610_G_SO8.pdf
footprint LT-S8-8_N (SOIC, 8-Leads, Body 4.9x3.9mm, Pitch 1.27mm, IPC Medium Density)
footprint LT-S8-8_L (SOIC, 8-Leads, Body 4.9x3.9mm, Pitch 1.27mm, IPC High Density)
footprint LT-S8-8_M (SOIC, 8-Leads, Body 4.9x3.9mm, Pitch 1.27mm, IPC Low Density)
pins: 1 VOS ADJ (in), 2 -IN A (in), 3 +IN A (in), 4 V- (power), 5 VOS ADJ (in), 6 OUT (out), 7 V+ (power), 8 NC

## LT1792IS8#PBF
designator U?
Single Channel, Low Distortion, Low Noise, Precision Operational Amplifier, 5.6 MHz Typical GBW, 3.4 V/us Typical SR, 10 to 40 V, 8-Pin SOIC (S8-8), Industrial, Pb-Free; Linear Technology Part Number: LT1792; Manufacturer: Linear Technology; PartNumber: LT1792IS8#PBF; Channels (#): 1; GBW (MHz) Typical: 5.6; Is (mA) Typical: 4.2; SR (V/us) Typical: 3.4; Vos (mV) Guaranteed: 0.6; Vos (mV) Typical: 0.2; Vs Max (V): 40; Vs Min (V): 10; PackageVersion: Rev G; PackageReference: LT-S8-8; PackageDescription: 8-Pin Plastic Small Outline, Body 4.9 x 3.9 mm, Pitch 1.27 mm; Supplier 1: Digi-Key; Supplier Part Number 1: LT1792IS8#PBF-ND; RoHS: Pb-Free; Type: JFET; Mounting Technology: Surface Mount; ComponentLink1Description: Manufacturer URL; ComponentLink1URL: http://www.linear.com/; ComponentLink2Description: Datasheet; ComponentLink2URL: http://cds.linear.com/docs/en/datasheet/1792f.pdf; ComponentLink3Description: Package Specification; ComponentLink3URL: http://cds.linear.com/docs/en/packaging/05081610_G_SO8.pdf
footprint LT-S8-8_N (SOIC, 8-Leads, Body 4.9x3.9mm, Pitch 1.27mm, IPC Medium Density)
footprint LT-S8-8_L (SOIC, 8-Leads, Body 4.9x3.9mm, Pitch 1.27mm, IPC High Density)
footprint LT-S8-8_M (SOIC, 8-Leads, Body 4.9x3.9mm, Pitch 1.27mm, IPC Low Density)
pins: 1 VOS ADJ (in), 2 -IN A (in), 3 +IN A (in), 4 V- (power), 5 VOS ADJ (in), 6 OUT (out), 7 V+ (power), 8 NC

## LT1792IS8#TR
designator U?
Single Channel, Low Distortion, Low Noise, Precision Operational Amplifier, 5.6 MHz Typical GBW, 3.4 V/us Typical SR, 10 to 40 V, 8-Pin SOIC (S8-8), Industrial, Reel; Linear Technology Part Number: LT1792; Manufacturer: Linear Technology; PartNumber: LT1792IS8#TR; Channels (#): 1; GBW (MHz) Typical: 5.6; Is (mA) Typical: 4.2; SR (V/us) Typical: 3.4; Vos (mV) Guaranteed: 0.6; Vos (mV) Typical: 0.2; Vs Max (V): 40; Vs Min (V): 10; PackageVersion: Rev G; PackageReference: LT-S8-8; PackageDescription: 8-Pin Plastic Small Outline, Body 4.9 x 3.9 mm, Pitch 1.27 mm; Supplier 1: Digi-Key; Supplier Part Number 1: LT1792IS8#TR-ND; Packing: Reel; Type: JFET; Mounting Technology: Surface Mount; ComponentLink1Description: Manufacturer URL; ComponentLink1URL: http://www.linear.com/; ComponentLink2Description: Datasheet; ComponentLink2URL: http://cds.linear.com/docs/en/datasheet/1792f.pdf; ComponentLink3Description: Package Specification; ComponentLink3URL: http://cds.linear.com/docs/en/packaging/05081610_G_SO8.pdf
footprint LT-S8-8_N (SOIC, 8-Leads, Body 4.9x3.9mm, Pitch 1.27mm, IPC Medium Density)
footprint LT-S8-8_L (SOIC, 8-Leads, Body 4.9x3.9mm, Pitch 1.27mm, IPC High Density)
footprint LT-S8-8_M (SOIC, 8-Leads, Body 4.9x3.9mm, Pitch 1.27mm, IPC Low Density)
pins: 1 VOS ADJ (in), 2 -IN A (in), 3 +IN A (in), 4 V- (power), 5 VOS ADJ (in), 6 OUT (out), 7 V+ (power), 8 NC

## LT1792IS8#TRPBF
designator U?
Single Channel, Low Distortion, Low Noise, Precision Operational Amplifier, 5.6 MHz Typical GBW, 3.4 V/us Typical SR, 10 to 40 V, 8-Pin SOIC (S8-8), Industrial, Pb-Free, Reel; Linear Technology Part Number: LT1792; Manufacturer: Linear Technology; PartNumber: LT1792IS8#TRPBF; Channels (#): 1; GBW (MHz) Typical: 5.6; Is (mA) Typical: 4.2; SR (V/us) Typical: 3.4; Vos (mV) Guaranteed: 0.6; Vos (mV) Typical: 0.2; Vs Max (V): 40; Vs Min (V): 10; PackageVersion: Rev G; PackageReference: LT-S8-8; PackageDescription: 8-Pin Plastic Small Outline, Body 4.9 x 3.9 mm, Pitch 1.27 mm; Supplier 1: Digi-Key; Supplier Part Number 1: LT1792IS8#TRPBF-ND; Packing: Reel; RoHS: Pb-Free; Type: JFET; Mounting Technology: Surface Mount; ComponentLink1Description: Manufacturer URL; ComponentLink1URL: http://www.linear.com/; ComponentLink2Description: Datasheet; ComponentLink2URL: http://cds.linear.com/docs/en/datasheet/1792f.pdf; ComponentLink3Description: Package Specification; ComponentLink3URL: http://cds.linear.com/docs/en/packaging/05081610_G_SO8.pdf
footprint LT-S8-8_N (SOIC, 8-Leads, Body 4.9x3.9mm, Pitch 1.27mm, IPC Medium Density)
footprint LT-S8-8_L (SOIC, 8-Leads, Body 4.9x3.9mm, Pitch 1.27mm, IPC High Density)
footprint LT-S8-8_M (SOIC, 8-Leads, Body 4.9x3.9mm, Pitch 1.27mm, IPC Low Density)
pins: 1 VOS ADJ (in), 2 -IN A (in), 3 +IN A (in), 4 V- (power), 5 VOS ADJ (in), 6 OUT (out), 7 V+ (power), 8 NC

## LT1793ACN8
designator U?
Single Channel, Low Distortion, Low Noise, Precision Operational Amplifier, Picoampere Bias Current, 4.2 MHz Typical GBW, 3.4 V/us Typical SR, 10 to 40 V, 8-Pin DIP (N8-8), Commercial; Linear Technology Part Number: LT1793; Manufacturer: Linear Technology; PartNumber: LT1793ACN8; Channels (#): 1; GBW (MHz) Typical: 4.2; SR (V/us) Typical: 3.4; Vos (mV) Guaranteed: 0.8; Vos (mV) Typical: 0.25; Vs Max (V): 40; Vs Min (V): 10; PackageVersion: Rev I; PackageReference: LT-N8-8; PackageDescription: 8-Lead PDIP, Body 10.16 x 6.48 mm, Pitch 2.54 mm; Supplier 1: Digi-Key; Supplier Part Number 1: LT1793ACN8-ND; Is (mA) Typical: 4.2; Type: JFET; Mounting Technology: Surface Mount; ComponentLink1Description: Manufacturer URL; ComponentLink1URL: http://www.linear.com/; ComponentLink2Description: Datasheet; ComponentLink2URL: http://cds.linear.com/docs/en/datasheet/1793f.pdf; ComponentLink3Description: Package Specification; ComponentLink3URL: http://cds.linear.com/docs/en/packaging/05081510_I_N8.pdf
footprint LT-N8-8 (DIP, 8-Leads, Body 10.16x6.48mm, Pitch 2.54mm)
pins: 1 VOS ADJ (in), 2 -IN A (in), 3 +IN A (in), 4 V- (power), 5 VOS ADJ (in), 6 OUT (out), 7 V+ (power), 8 NC

## LT1793ACN8#PBF
designator U?
Single Channel, Low Distortion, Low Noise, Precision Operational Amplifier, Picoampere Bias Current, 4.2 MHz Typical GBW, 3.4 V/us Typical SR, 10 to 40 V, 8-Pin DIP (N8-8), Commercial, Pb-Free; Linear Technology Part Number: LT1793; Manufacturer: Linear Technology; PartNumber: LT1793ACN8#PBF; Channels (#): 1; GBW (MHz) Typical: 4.2; SR (V/us) Typical: 3.4; Vos (mV) Guaranteed: 0.8; Vos (mV) Typical: 0.25; Vs Max (V): 40; Vs Min (V): 10; PackageVersion: Rev I; PackageReference: LT-N8-8; PackageDescription: 8-Lead PDIP, Body 10.16 x 6.48 mm, Pitch 2.54 mm; Supplier 1: Digi-Key; Supplier Part Number 1: LT1793ACN8#PBF-ND; Is (mA) Typical: 4.2; RoHS: Pb-Free; Type: JFET; Mounting Technology: Through Hole; ComponentLink1Description: Manufacturer URL; ComponentLink1URL: http://www.linear.com/; ComponentLink2Description: Datasheet; ComponentLink2URL: http://cds.linear.com/docs/en/datasheet/1793f.pdf; ComponentLink3Description: Package Specification; ComponentLink3URL: http://cds.linear.com/docs/en/packaging/05081510_I_N8.pdf
footprint LT-N8-8 (DIP, 8-Leads, Body 10.16x6.48mm, Pitch 2.54mm)
pins: 1 VOS ADJ (in), 2 -IN A (in), 3 +IN A (in), 4 V- (power), 5 VOS ADJ (in), 6 OUT (out), 7 V+ (power), 8 NC

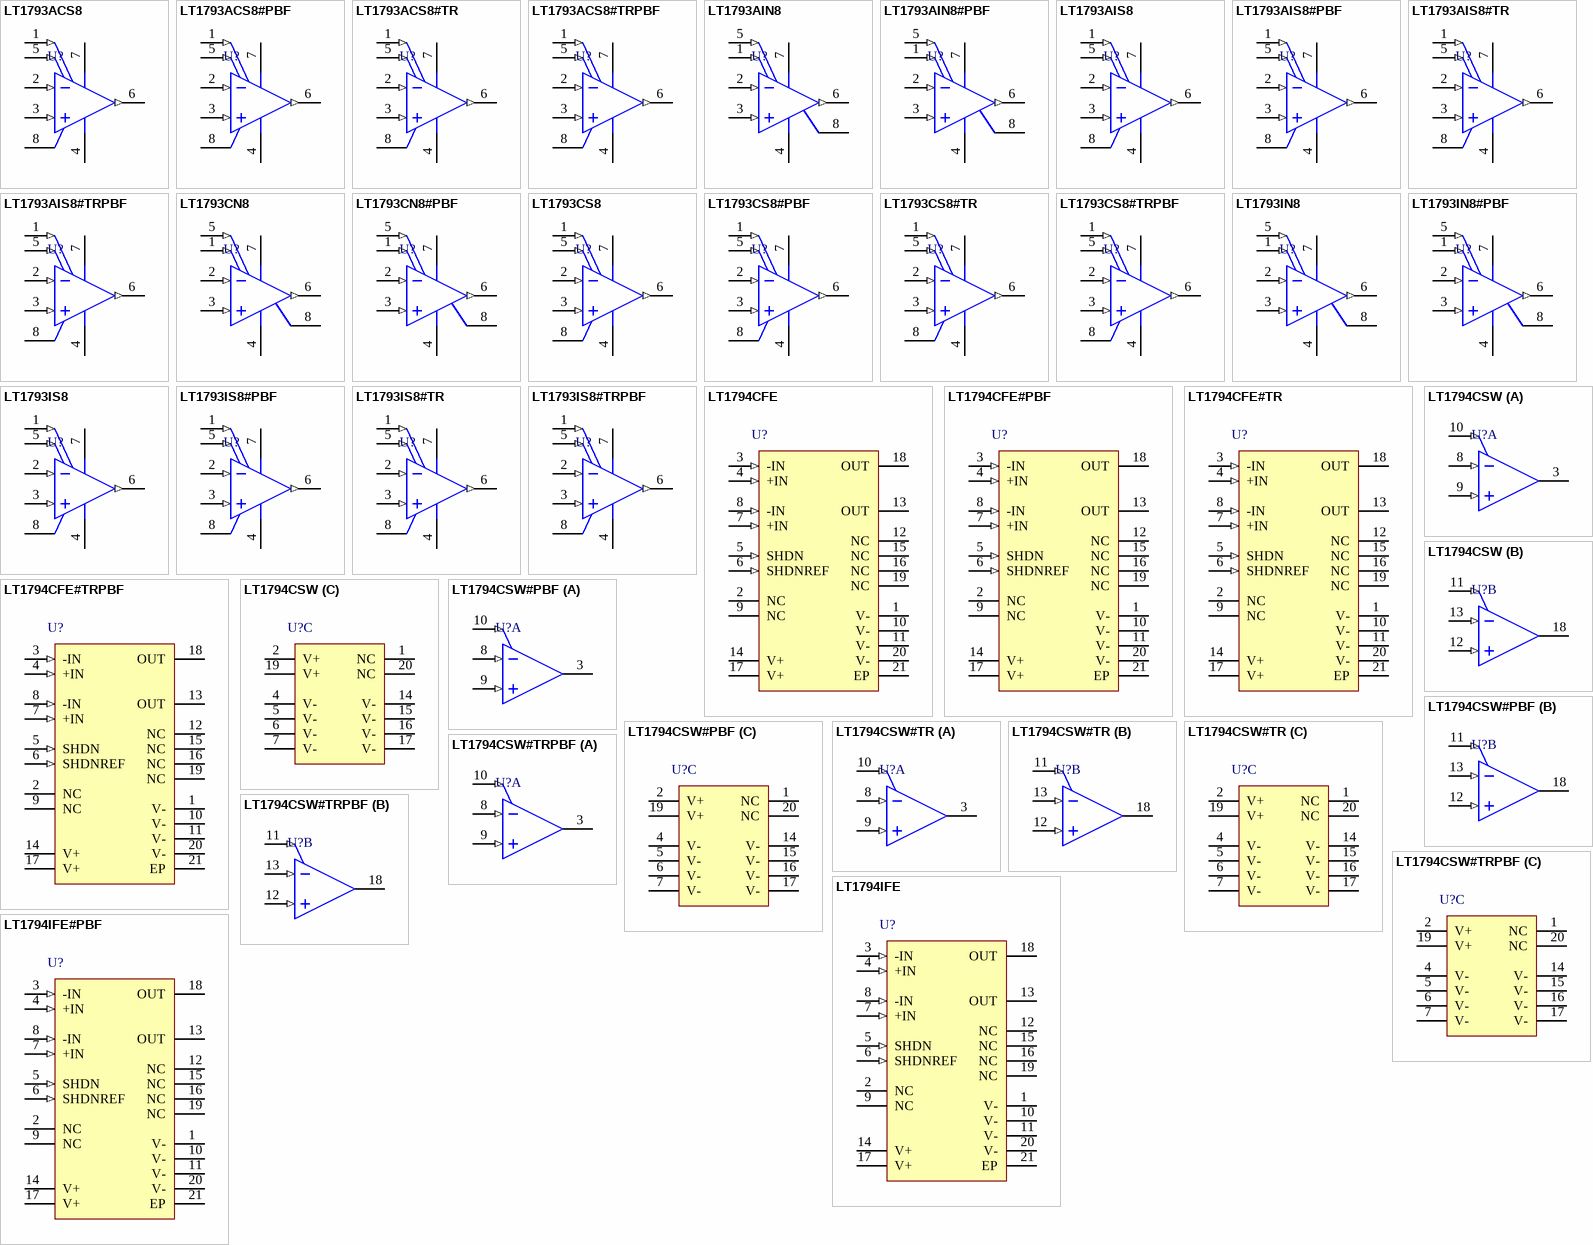
[diagram p73: symbols LT1793ACS8 to LT1794IFE#PBF]

## LT1793ACS8
designator U?
Single Channel, Low Distortion, Low Noise, Precision Operational Amplifier, Picoampere Bias Current, 4.2 MHz Typical GBW, 3.4 V/us Typical SR, 10 to 40 V, 8-Pin SOIC (S8-8), Commercial; Linear Technology Part Number: LT1793; Manufacturer: Linear Technology; PartNumber: LT1793ACS8; Channels (#): 1; GBW (MHz) Typical: 4.2; SR (V/us) Typical: 3.4; Vos (mV) Guaranteed: 0.8; Vos (mV) Typical: 0.25; Vs Max (V): 40; Vs Min (V): 10; PackageVersion: Rev G; PackageReference: LT-S8-8; PackageDescription: 8-Pin Plastic Small Outline, Body 4.9 x 3.9 mm, Pitch 1.27 mm; Supplier 1: Digi-Key; Supplier Part Number 1: LT1793ACS8-ND; Is (mA) Typical: 4.2; Type: JFET; Mounting Technology: Surface Mount; ComponentLink1Description: Manufacturer URL; ComponentLink1URL: http://www.linear.com/; ComponentLink2Description: Datasheet; ComponentLink2URL: http://cds.linear.com/docs/en/datasheet/1793f.pdf; ComponentLink3Description: Package Specification; ComponentLink3URL: http://cds.linear.com/docs/en/packaging/05081610_G_SO8.pdf
footprint LT-S8-8_N (SOIC, 8-Leads, Body 4.9x3.9mm, Pitch 1.27mm, IPC Medium Density)
footprint LT-S8-8_L (SOIC, 8-Leads, Body 4.9x3.9mm, Pitch 1.27mm, IPC High Density)
footprint LT-S8-8_M (SOIC, 8-Leads, Body 4.9x3.9mm, Pitch 1.27mm, IPC Low Density)
pins: 1 VOS ADJ (in), 2 -IN A (in), 3 +IN A (in), 4 V- (power), 5 VOS ADJ (in), 6 OUT (out), 7 V+ (power), 8 NC

## LT1793ACS8#PBF
designator U?
Single Channel, Low Distortion, Low Noise, Precision Operational Amplifier, Picoampere Bias Current, 4.2 MHz Typical GBW, 3.4 V/us Typical SR, 10 to 40 V, 8-Pin SOIC (S8-8), Commercial, Pb-Free; Linear Technology Part Number: LT1793; Manufacturer: Linear Technology; PartNumber: LT1793ACS8#PBF; Channels (#): 1; GBW (MHz) Typical: 4.2; SR (V/us) Typical: 3.4; Vos (mV) Guaranteed: 0.8; Vos (mV) Typical: 0.25; Vs Max (V): 40; Vs Min (V): 10; PackageVersion: Rev G; PackageReference: LT-S8-8; PackageDescription: 8-Pin Plastic Small Outline, Body 4.9 x 3.9 mm, Pitch 1.27 mm; Supplier 1: Digi-Key; Supplier Part Number 1: LT1793ACS8#PBF-ND; Supplier 2: Farnell; Supplier Part Number 2: 1663509; Supplier 3: Newark; Supplier Part Number 3: 57M6649; Is (mA) Typical: 4.2; RoHS: Pb-Free; Type: JFET; Mounting Technology: Surface Mount; ComponentLink1Description: Manufacturer URL; ComponentLink1URL: http://www.linear.com/; ComponentLink2Description: Datasheet; ComponentLink2URL: http://cds.linear.com/docs/en/datasheet/1793f.pdf; ComponentLink3Description: Package Specification; ComponentLink3URL: http://cds.linear.com/docs/en/packaging/05081610_G_SO8.pdf
footprint LT-S8-8_N (SOIC, 8-Leads, Body 4.9x3.9mm, Pitch 1.27mm, IPC Medium Density)
footprint LT-S8-8_L (SOIC, 8-Leads, Body 4.9x3.9mm, Pitch 1.27mm, IPC High Density)
footprint LT-S8-8_M (SOIC, 8-Leads, Body 4.9x3.9mm, Pitch 1.27mm, IPC Low Density)
pins: 1 VOS ADJ (in), 2 -IN A (in), 3 +IN A (in), 4 V- (power), 5 VOS ADJ (in), 6 OUT (out), 7 V+ (power), 8 NC

## LT1793ACS8#TR
designator U?
Single Channel, Low Distortion, Low Noise, Precision Operational Amplifier, Picoampere Bias Current, 4.2 MHz Typical GBW, 3.4 V/us Typical SR, 10 to 40 V, 8-Pin SOIC (S8-8), Commercial, Reel; Linear Technology Part Number: LT1793; Manufacturer: Linear Technology; PartNumber: LT1793ACS8#TR; Channels (#): 1; GBW (MHz) Typical: 4.2; SR (V/us) Typical: 3.4; Vos (mV) Guaranteed: 0.8; Vos (mV) Typical: 0.25; Vs Max (V): 40; Vs Min (V): 10; PackageVersion: Rev G; PackageReference: LT-S8-8; PackageDescription: 8-Pin Plastic Small Outline, Body 4.9 x 3.9 mm, Pitch 1.27 mm; Supplier 1: Digi-Key; Supplier Part Number 1: LT1793ACS8#TR-ND; Is (mA) Typical: 4.2; Packing: Reel; Type: JFET; Mounting Technology: Surface Mount; ComponentLink1Description: Manufacturer URL; ComponentLink1URL: http://www.linear.com/; ComponentLink2Description: Datasheet; ComponentLink2URL: http://cds.linear.com/docs/en/datasheet/1793f.pdf; ComponentLink3Description: Package Specification; ComponentLink3URL: http://cds.linear.com/docs/en/packaging/05081610_G_SO8.pdf
footprint LT-S8-8_N (SOIC, 8-Leads, Body 4.9x3.9mm, Pitch 1.27mm, IPC Medium Density)
footprint LT-S8-8_L (SOIC, 8-Leads, Body 4.9x3.9mm, Pitch 1.27mm, IPC High Density)
footprint LT-S8-8_M (SOIC, 8-Leads, Body 4.9x3.9mm, Pitch 1.27mm, IPC Low Density)
pins: 1 VOS ADJ (in), 2 -IN A (in), 3 +IN A (in), 4 V- (power), 5 VOS ADJ (in), 6 OUT (out), 7 V+ (power), 8 NC

## LT1793ACS8#TRPBF
designator U?
Single Channel, Low Distortion, Low Noise, Precision Operational Amplifier, Picoampere Bias Current, 4.2 MHz Typical GBW, 3.4 V/us Typical SR, 10 to 40 V, 8-Pin SOIC (S8-8), Commercial, Pb-Free, Reel; Linear Technology Part Number: LT1793; Manufacturer: Linear Technology; PartNumber: LT1793ACS8#TRPBF; Channels (#): 1; GBW (MHz) Typical: 4.2; SR (V/us) Typical: 3.4; Vos (mV) Guaranteed: 0.8; Vos (mV) Typical: 0.25; Vs Max (V): 40; Vs Min (V): 10; PackageVersion: Rev G; PackageReference: LT-S8-8; PackageDescription: 8-Pin Plastic Small Outline, Body 4.9 x 3.9 mm, Pitch 1.27 mm; Supplier 1: Digi-Key; Supplier Part Number 1: LT1793ACS8#TRPBF-ND; Is (mA) Typical: 4.2; Packing: Reel; RoHS: Pb-Free; Type: JFET; Mounting Technology: Surface Mount; ComponentLink1Description: Manufacturer URL; ComponentLink1URL: http://www.linear.com/; ComponentLink2Description: Datasheet; ComponentLink2URL: http://cds.linear.com/docs/en/datasheet/1793f.pdf; ComponentLink3Description: Package Specification; ComponentLink3URL: http://cds.linear.com/docs/en/packaging/05081610_G_SO8.pdf
footprint LT-S8-8_N (SOIC, 8-Leads, Body 4.9x3.9mm, Pitch 1.27mm, IPC Medium Density)
footprint LT-S8-8_L (SOIC, 8-Leads, Body 4.9x3.9mm, Pitch 1.27mm, IPC High Density)
footprint LT-S8-8_M (SOIC, 8-Leads, Body 4.9x3.9mm, Pitch 1.27mm, IPC Low Density)
pins: 1 VOS ADJ (in), 2 -IN A (in), 3 +IN A (in), 4 V- (power), 5 VOS ADJ (in), 6 OUT (out), 7 V+ (power), 8 NC

## LT1793AIN8
designator U?
Single Channel, Low Distortion, Low Noise, Precision Operational Amplifier, Picoampere Bias Current, 4.2 MHz Typical GBW, 3.4 V/us Typical SR, 10 to 40 V, 8-Pin DIP (N8-8), Industrial; Linear Technology Part Number: LT1793; Manufacturer: Linear Technology; PartNumber: LT1793AIN8; Channels (#): 1; GBW (MHz) Typical: 4.2; SR (V/us) Typical: 3.4; Vos (mV) Guaranteed: 0.8; Vos (mV) Typical: 0.25; Vs Max (V): 40; Vs Min (V): 10; PackageVersion: Rev I; PackageReference: LT-N8-8; PackageDescription: 8-Lead PDIP, Body 10.16 x 6.48 mm, Pitch 2.54 mm; Supplier 1: Digi-Key; Supplier Part Number 1: LT1793AIN8-ND; Is (mA) Typical: 4.2; Type: JFET; Mounting Technology: Surface Mount; ComponentLink1Description: Manufacturer URL; ComponentLink1URL: http://www.linear.com/; ComponentLink2Description: Datasheet; ComponentLink2URL: http://cds.linear.com/docs/en/datasheet/1793f.pdf; ComponentLink3Description: Package Specification; ComponentLink3URL: http://cds.linear.com/docs/en/packaging/05081510_I_N8.pdf
footprint LT-N8-8 (DIP, 8-Leads, Body 10.16x6.48mm, Pitch 2.54mm)
pins: 1 VOS ADJ (in), 2 -IN A (in), 3 +IN A (in), 4 V- (power), 5 VOS ADJ (in), 6 OUT (out), 7 V+ (power), 8 NC

## LT1793AIN8#PBF
designator U?
Single Channel, Low Distortion, Low Noise, Precision Operational Amplifier, Picoampere Bias Current, 4.2 MHz Typical GBW, 3.4 V/us Typical SR, 10 to 40 V, 8-Pin DIP (N8-8), Industrial, Pb-Free; Linear Technology Part Number: LT1793; Manufacturer: Linear Technology; PartNumber: LT1793AIN8#PBF; Channels (#): 1; GBW (MHz) Typical: 4.2; SR (V/us) Typical: 3.4; Vos (mV) Guaranteed: 0.8; Vos (mV) Typical: 0.25; Vs Max (V): 40; Vs Min (V): 10; PackageVersion: Rev I; PackageReference: LT-N8-8; PackageDescription: 8-Lead PDIP, Body 10.16 x 6.48 mm, Pitch 2.54 mm; Supplier 1: Digi-Key; Supplier Part Number 1: LT1793AIN8#PBF-ND; Is (mA) Typical: 4.2; RoHS: Pb-Free; Type: JFET; Mounting Technology: Through Hole; ComponentLink1Description: Manufacturer URL; ComponentLink1URL: http://www.linear.com/; ComponentLink2Description: Datasheet; ComponentLink2URL: http://cds.linear.com/docs/en/datasheet/1793f.pdf; ComponentLink3Description: Package Specification; ComponentLink3URL: http://cds.linear.com/docs/en/packaging/05081510_I_N8.pdf
footprint LT-N8-8 (DIP, 8-Leads, Body 10.16x6.48mm, Pitch 2.54mm)
pins: 1 VOS ADJ (in), 2 -IN A (in), 3 +IN A (in), 4 V- (power), 5 VOS ADJ (in), 6 OUT (out), 7 V+ (power), 8 NC